# Altium schematic symbol library 二极管.SchLib: 2 symbols
Pins are listed as number, name and electrical type; pins without a type are passive.

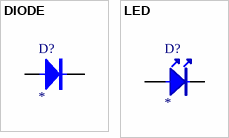
[diagram p0: symbols DIODE to LED]

## DIODE
designator D?
footprint DIODE0.4
footprint DIODE0.2
footprint D1206 (Molded Diode, 2-Leads, Body 5.0x2.7mm, IPC Medium Density)
footprint DIODE0.7
pins: 1, 2

## LED
designator D?
footprint LED2_B (5mm)
footprint LED1_B (3mm)
footprint LED_1206
footprint LED_0805
pins: 1, 2